# Altium footprint library A.Shelestov_Capacitors.PcbLib: 8 footprints
Each footprint in its own frame and in the unit in brackets; x right, y up, seen from the top. Pads: shape width x height; smd on the part's side, far side on the other; paste and mask are expansions set on the pad; w line width, h text height; cw(c..) or ccw(c..) is an arc to the next point about the centre after c.
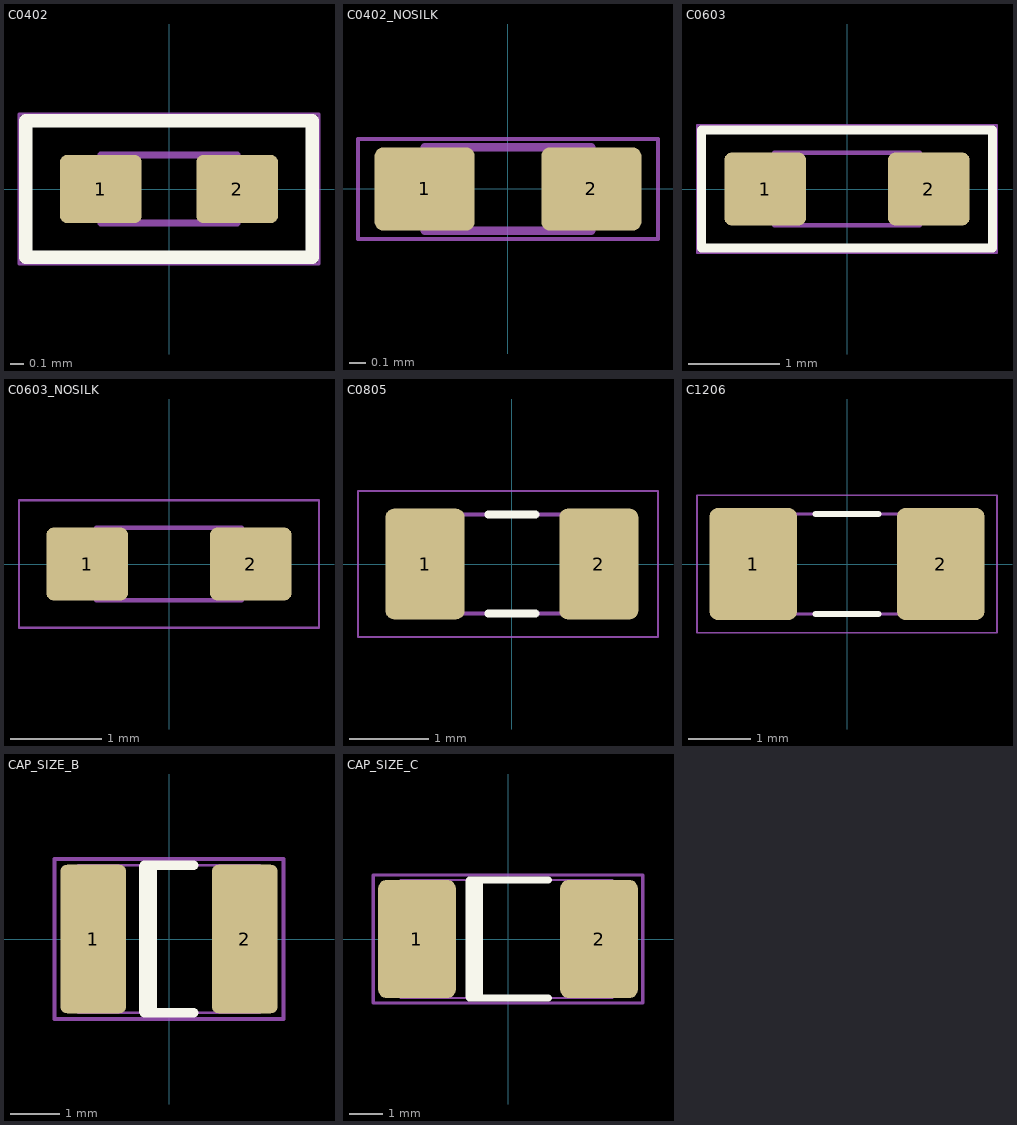
[diagram p0: the footprints below, top view; thin cyan lines are the x and y axes]

## C0402 [mm]
pads (2):
  rrect20% 0.6x0.5 smd: 1(-0.5,0) 2(0.5,0)
Top Overlay:
  lines w0.1: -1.05,-0.5 -1.05,0.5 1.05,0.5 1.05,-0.5 -1.05,-0.5
Mechanical 13:
  lines w0.05: -0.5,-0.25 0.5,-0.25 0.5,0.25 -0.5,0.25 -0.5,-0.25
  text ".Designator" at -0.35,-0.15 h0.3
Mechanical 15:
  lines w0.025: -1.1,-0.55 1.1,-0.55 1.1,0.55 -1.1,0.55 -1.1,-0.55
3D body: height 0.55, standoff 0.05, extent -0.3,-0.25 0.3,0.25
3D body: height 0.55, standoff 0.05, extent 0.3,-0.25 0.487,0.25
3D body: height 0.55, standoff 0.05, extent -0.487,-0.25 -0.3,0.25

## C0402_NOSILK [mm]
pads (2):
  rrect20% 0.6x0.5 smd: 1(-0.5,0) 2(0.5,0)
Mechanical 13:
  lines w0.05: -0.5,-0.25 0.5,-0.25 0.5,0.25 -0.5,0.25 -0.5,-0.25
  text ".Designator" at -0.35,-0.15 h0.3
Mechanical 15:
  lines w0.025: -0.9,-0.3 0.9,-0.3 0.9,0.3 -0.9,0.3 -0.9,-0.3
3D body: height 0.55, standoff 0.05, extent -0.3,-0.25 0.3,0.25
3D body: height 0.55, standoff 0.05, extent 0.3,-0.25 0.487,0.25
3D body: height 0.55, standoff 0.05, extent -0.487,-0.25 -0.3,0.25

## C0603 [mm]
pads (2):
  rrect20% 0.9x0.8 smd: 1(-0.9,0) 2(0.9,0)
Top Overlay:
  lines w0.1: -1.6,-0.65 -1.6,0.65 1.6,0.65 1.6,-0.65 -1.6,-0.65
Mechanical 13:
  lines w0.05: -0.8,-0.4 0.8,-0.4 0.8,0.4 -0.8,0.4 -0.8,-0.4
  text ".Designator" at -0.65,-0.25 h0.5
Mechanical 15:
  lines w0.025: -1.65,-0.7 1.65,-0.7 1.65,0.7 -1.65,0.7 -1.65,-0.7
3D body: height 0.85, standoff 0.05, extent -0.45,-0.4 0.45,0.395
3D body: height 0.85, standoff 0.05, extent 0.45,-0.4 0.8,0.395
3D body: height 0.85, standoff 0.05, extent -0.8,-0.4 -0.45,0.395
3D body: height 1.25, standoff -1.25, extent -0.762,-0.635 -0.762,-0.635

## C0603_NOSILK [mm]
pads (2):
  rrect20% 0.9x0.8 smd: 1(-0.9,0) 2(0.9,0)
Mechanical 13:
  lines w0.05: -0.8,-0.4 0.8,-0.4 0.8,0.4 -0.8,0.4 -0.8,-0.4
  text ".Designator" at -0.65,-0.25 h0.5
Mechanical 15:
  lines w0.025: -1.65,-0.7 1.65,-0.7 1.65,0.7 -1.65,0.7 -1.65,-0.7
3D body: height 0.85, standoff 0.05, extent -0.45,-0.4 0.45,0.395
3D body: height 0.85, standoff 0.05, extent 0.45,-0.4 0.8,0.395
3D body: height 0.85, standoff 0.05, extent -0.8,-0.4 -0.45,0.395
3D body: height 1.25, standoff -1.25, extent -0.762,-0.635 -0.762,-0.635

## C0805 [mm]
pads (2):
  rrect20% 1x1.4 smd: 1(-1.1,0) 2(1.1,0)
Top Overlay:
  lines w0.1: -0.3,-0.625 0.3,-0.625 ; -0.3,0.625 0.3,0.625
Mechanical 13:
  lines w0.05: -1,-0.624 1,-0.624 1,0.624 -1,0.624 -1,-0.624
  text ".Designator" at -0.875,-0.3 h0.65
Mechanical 15:
  lines w0.025: -1.95,-0.925 1.85,-0.925 1.85,0.925 -1.95,0.925 -1.95,-0.925
3D body: height 0.85, standoff 0.05, extent -1,-0.625 -0.55,0.625
3D body: height 0.85, standoff 0.05, extent 0.55,-0.625 1,0.625
3D body: height 0.85, standoff 0.05, extent -0.55,-0.625 0.55,0.625

## C1206 [mm]
pads (2):
  rrect20% 1.4x1.8 smd: 1(-1.5,0) 2(1.5,0)
Top Overlay:
  lines w0.1: -0.5,-0.8 0.5,-0.8 ; -0.5,0.8 0.5,0.8
Mechanical 13:
  lines w0.05: -1.6,-0.8 -1.6,0.8 1.6,0.8 1.6,-0.8 -1.6,-0.8
  text ".Designator" at -1.175,-0.4 h1.5
Mechanical 15:
  lines w0.025: -2.4,-1.1 2.4,-1.1 2.4,1.1 -2.4,1.1 -2.4,-1.1
3D body: height 1.3, standoff 0.05, extent 0.8,-0.8 1.6,0.8
3D body: height 1.3, standoff 0.05, extent -1.6,-0.8 -0.8,0.8
3D body: height 1.3, standoff 0.05, extent -0.8,-0.8 0.8,0.8

## CAP_SIZE_B [mm]
pads (2):
  rrect20% 1.34x3.02 smd: 1(-1.54,0) 2(1.54,0)
Top Overlay:
  region: -0.6,1.5 -0.575,1.475 -0.25,1.475 -0.25,-1.5 -0.6,-1.5
  lines w0.2: -0.5,-1.5 0.5,-1.5 ; -0.5,1.5 0.5,1.5
Mechanical 13:
  lines w0.05: -0.149,-1.5 1.85,-1.5 1.85,0 1.85,1.5 -0.149,1.5 ; 0.149,-1.5 -1.85,-1.5 -1.85,0 -1.85,1.5 0.149,1.5
  text ".Designator" at -1.15,-0.475 h1.5
Mechanical 15:
  lines w0.08: -2.325,-1.625 0,-1.625 2.325,-1.625 2.325,0 2.325,1.625 0,1.625 -2.325,1.625 -2.325,0 -2.325,-1.625
3D body "CAP_t520b107m006ate015.stp": height 2.11, standoff 0.01, extent -1.85,-1.5 1.85,1.5

## CAP_SIZE_C [mm]
pads (2):
  rrect20% 2.3x3.5 smd: 1(-2.7,0) 2(2.7,0)
Top Overlay:
  region: -1.25,1.75 -0.75,1.75 -0.75,-1.75 -1.25,-1.75
  lines w0.2: -1.15,-1.75 1.2,-1.75 ; -1.15,1.75 1.2,1.75
Mechanical 13:
  lines w0.05: -3.2,-1.75 0,-1.75 3.1,-1.75 3.1,0 3.1,1.75 0,1.75 -3.2,1.75 -3.2,0 -3.2,-1.75
  text ".Designator" at -2.325,-0.925 h3
Mechanical 15:
  lines w0.1: -4,-1.9 -4,0 -4,1.9 0,1.9 4,1.9 4,0 4,-1.9 0,-1.9 -4,-1.9
3D body "cap_size_c.stp": height 2.81, standoff 0.01, extent -3.2,-1.75 3.1,1.75